# Altium schematic symbol library GasDischargeTube.SchLib: 1 symbol
Pins are listed as number, name and electrical type; pins without a type are passive.

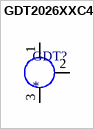
[diagram p0: symbol GDT2026XXC4]

## GDT2026XXC4
designator GDT?
Digi-Key Part Number: 2026-07-C4-ND
footprint GDT2026XXC4
pins: 1, 2, 3